# Altium schematic symbol library B0540WS-7.SchLib: 2 symbols
Pins are listed as number, name and electrical type; pins without a type are passive.

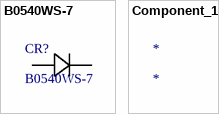
[diagram p0: symbols B0540WS-7 to Component_1]

## B0540WS-7
designator CR?
No Description Available; Mfr_Name: Diodes Inc; Type: DEV; Copyright: Copyright (C) 2023 Ultra Librarian. All rights reserved.; Manufacturer_Part_Number: B0540WS-7; RefDes: RefDes
footprint SOD323_DIO
pins: 1, 2

## Component_1
designator *